# EAGLE library part 42T?* (library trafo-xicon)
Xicon Micro-Mini EI-12 Audio Transformers 42TL/42TC/42TM Series Source: http://www.mouser.com//catalog/specsheets/164201.pdf http://www.mouser.com/catalog/specsheets/114225.pdf http://www.mouser.com/catalog/specsheets/164267.pdf
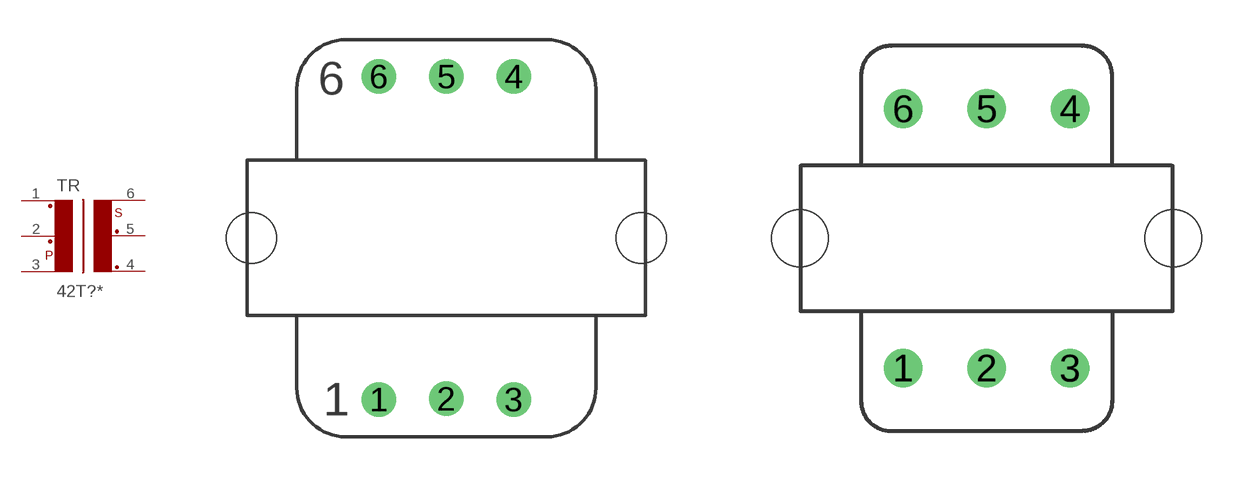
[diagram p0: symbol with the pads of 42TL; footprints 42TL, 42TC]

Designator prefix TR

## 42TL001, 42TL002, 42TL003, 42TL004, 42TL006, 42TL008, 42TL009, 42TL011, 42TL012, 42TL013, 42TL016, 42TL017, 42TL018, 42TL019, 42TL020, 42TL021, 42TL022, 42TL023, 42TL024, 42TL025, 42TL026, 42TL027, 42TL030, 42TL031, 42TL218  [42TL]
1  1  pas
2  2  pas
3  3  pas
4  4  pas
5  5  pas
6  6  pas

## 42TC001, 42TC013, 42TC016  [42TC]
Pads as for 42TL

## 42TC019, 42TC021, 42TC030  [42TC]
1  4  pas
2  5  pas
3  6  pas
4  1  pas
5  2  pas
6  3  pas

## 42TM001, 42TM002, 42TM003, 42TM004, 42TM006, 42TM008, 42TM009, 42TM010, 42TM011, 42TM012, 42TM013, 42TM016, 42TM017, 42TM018, 42TM019, 42TM020, 42TM021, 42TM022, 42TM023, 42TM024, 42TM025, 42TM026, 42TM027, 42TM030, 42TM031, 42TM114, 42TM117, 42TM118  [42TM]
Pads as for 42TL

## Footprint 42TL (pad centres in mm)
Xicon Ultra-Mini Audio Transformer 42TL Series Category: Audio & Signal Transformers Source: http://www.mouser.com//catalog/specsheets/164201.pdf
drill 0.7 pad 1.3 round: 1 -2.54,-6.096; 2 0,-6.068; 3 2.54,-6.096; 4 2.54,6.096; 5 0,6.096; 6 -2.54,6.096
hole 1.9 at -7.353,0
hole 1.9 at 7.353,0

## Footprint 42TC (pad centres in mm)
Xicon Ultra-Mini Audio Transformer 42TC Series Source: http://www.mouser.com/catalog/specsheets/114225.pdf
drill 0.7 pad 1.3 round: 1 -2.794,-4.343; 2 0,-4.343; 3 2.794,-4.343; 4 2.794,4.343; 5 0,4.343; 6 -2.794,4.343
hole 1.9 at -6.248,0
hole 1.9 at 6.248,0

## Footprint 42TM (pad centres in mm)
Xicon Ultra-Mini Audio Transformer 42TM Series Source: http://www.mouser.com/catalog/specsheets/164267.pdf
drill 0.7 pad 1.3 round: 1 -3.556,-6.35; 2 0,-6.35; 3 3.556,-6.35; 4 3.556,6.35; 5 0,6.35; 6 -3.556,6.35
hole 1.9 at -9.982,0
hole 1.9 at 9.982,0